# EAGLE library part J202011CQN (library switch-omron)
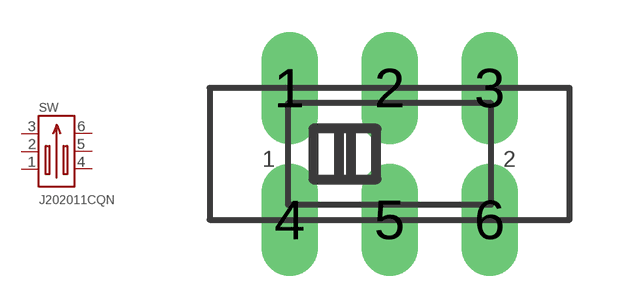
[diagram p0: symbol with the pads of JS202011CQN; footprint JS202011CQN]

Designator prefix SW

## J202011CQN  [JS202011CQN]
1  1
2  2
3  3
4  4
5  5
6  6

## Footprint JS202011CQN (pad centres in mm)
drill 0.9 long: 1 -2.5,1.65; 2 0,1.65; 3 2.5,1.65; 4 -2.5,-1.65; 5 0,-1.65; 6 2.5,-1.65